# Altium schematic symbol library THD Buttons.SchLib: 2 symbols
Pins are listed as number, name and electrical type; pins without a type are passive.

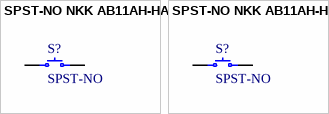
[diagram p0: symbols SPST-NO NKK AB11AH-HA to SPST-NO NKK AB11AH-HC]

## SPST-NO NKK AB11AH-HA
designator S?, comment SPST-NO
footprint NKK AB11AH-HA
pins: 1, 3

## SPST-NO NKK AB11AH-HC
designator S?, comment SPST-NO
footprint NKK AB11AH-HC
pins: 1, 3